# Altium schematic symbol library tcan1462vdrq1.SchLib: 1 symbol
Pins are listed as number, name and electrical type; pins without a type are passive.

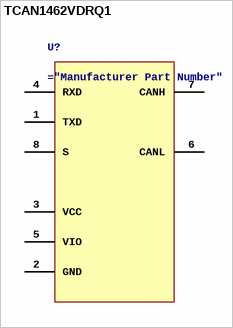
[diagram p0: symbol TCAN1462VDRQ1]

## TCAN1462VDRQ1
designator U?
Automotive signal improvement CAN FD transceiver with VIO and standby 8-SOIC -40 to 125
pins: 1 TXD, 2 GND, 3 VCC, 4 RXD, 5 VIO, 6 CANL, 7 CANH, 8 S